# EAGLE library part MAX17261METD+T (library Deegou_IC)
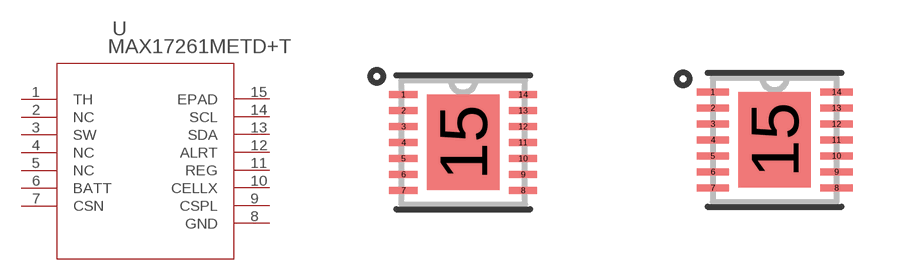
[diagram p176: symbol with the pads of 21-0137I_T1433-2; footprints 21-0137I_T1433-2, 21-0137I_T1433-2-M]

Designator prefix U

## MAX17261METD+T (MANUFACTURER_PART_NUMBER: MAX17261METD+T; VENDOR: Maxim Integrated Products)  [21-0137I_T1433-2]
1  TH  pas
2  NC  nc
3  SW  pas
4  NC  nc
5  NC  nc
6  BATT  pas
7  CSN  pas
8  GND  pas
9  CSPL  pas
10  CELLX  pas
11  REG  pas
12  ALRT  pas
13  SDA  pas
14  SCL  pas
15  EPAD  pas

## MAX17261METD+T21-0137I_T1433-2-M (MANUFACTURER_PART_NUMBER: MAX17261METD+T; VENDOR: Maxim Integrated Products)  [21-0137I_T1433-2-M]
Pads as for 21-0137I_T1433-2

## MAX17261METD+T21-0137I_T1433-2-L (MANUFACTURER_PART_NUMBER: MAX17261METD+T; VENDOR: Maxim Integrated Products)  [21-0137I_T1433-2-L]
Pads as for 21-0137I_T1433-2

## Footprint 21-0137I_T1433-2 (pad centres in mm)
smd 0.706 x 0.174: 1 -1.496,1.2; 2 -1.496,0.8; 3 -1.496,0.4; 4 -1.496,0; 5 -1.496,-0.4; 6 -1.496,-0.8; 7 -1.496,-1.2; 8 1.496,-1.2; 9 1.496,-0.8; 10 1.496,-0.4; 11 1.496,0; 12 1.496,0.4; 13 1.496,0.8; 14 1.496,1.2
smd 1.803 x 2.388: 15 0,0

## Footprint 21-0137I_T1433-2-M (pad centres in mm)
smd 0.806 x 0.174: 1 -1.546,1.2; 2 -1.546,0.8; 3 -1.546,0.4; 4 -1.546,0; 5 -1.546,-0.4; 6 -1.546,-0.8; 7 -1.546,-1.2; 8 1.546,-1.2; 9 1.546,-0.8; 10 1.546,-0.4; 11 1.546,0; 12 1.546,0.4; 13 1.546,0.8; 14 1.546,1.2
smd 1.803 x 2.388: 15 0,0

## Footprint 21-0137I_T1433-2-L (pad centres in mm)
smd 0.606 x 0.174: 1 -1.446,1.2; 2 -1.446,0.8; 3 -1.446,0.4; 4 -1.446,0; 5 -1.446,-0.4; 6 -1.446,-0.8; 7 -1.446,-1.2; 8 1.446,-1.2; 9 1.446,-0.8; 10 1.446,-0.4; 11 1.446,0; 12 1.446,0.4; 13 1.446,0.8; 14 1.446,1.2
smd 1.803 x 2.388: 15 0,0